# Altium schematic symbol library Antenna.SchLib: 1 symbol
Pins are listed as number, name and electrical type; pins without a type are passive.

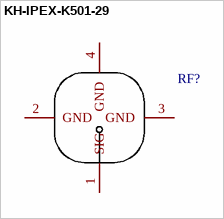
[diagram p0: symbol KH-IPEX-K501-29]

## KH-IPEX-K501-29
designator RF?  (value not drawn)
连接器类型:板端;射频系列:IPEX;接口类型:内针;端口数量:1;阻抗:50Ω;频率-最大值:3GHz;样式:-;接口直径:2mm;接口长度/高度:1.25mm;工作温度范围:-40℃~+90℃;; Manufacturer: kinghelm(金航标); Add into BOM: yes; Connector Type: 板端; RF Series: IPEX; Interface Type: 内针; Number of Ports: 1; Impedance: 50Ω; Frequency-Max: 3GHz; Interface Diameter: 2mm; Interface Length/Height: 1.25mm; Name: KH-IPEX-K501-29; Symbol: KH-IPEX-K501-29; Device: KH-IPEX-K501-29; LCSC Part Name: IPEX内针1代; Supplier Part: C411563; Manufacturer Part: KH-IPEX-K501-29; Supplier Footprint: SMD; JLCPCB Part Class: ExtendedPart; Datasheet: https://atta.szlcsc.com/upload/public/pdf/source/20210317/C411563_B117163D510F1EF8C12FF082F555A034.pdf; Supplier: LCSC; Convert to PCB: yes; Style: -; Operating Temperature Range: -40℃~+90℃
footprint ANT-SMD_KH-IPEX-K501-29
pins: 1 SIG, 2 GND, 3 GND, 4 GND